# EAGLE library part ATTINY43 (library SparkFun-IC-Microcontroller)
ATtiny43 Pin 4 is COPI and Pin 5 is CIPO when the chip is in peripheral mode or is being programmed Pin 4 is CIPO and Pin 5 is COPI when the chip is operating in controller mode The #defines in the ATTinyCore assume controller mode
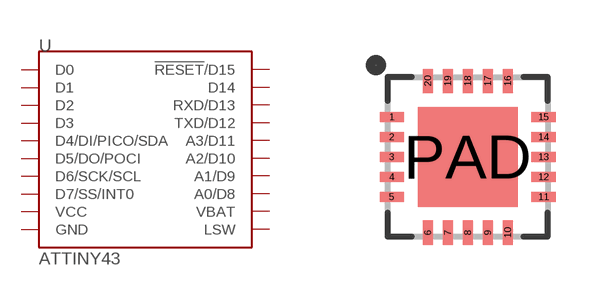
[diagram p41: symbol with the pads of QFN20_20M1; footprint QFN20_20M1]

Designator prefix -

## ATTINY43_QFN20 (DIGIKEY_PART: ATTINY43U-MU-ND; MANU_PART: ATtiny43U-MU; PROD_ID: IC-16068)  [QFN20_20M1]
1  D2
2  D3
3  D4/DI/PICO/SDA
4  D5/DO/POCI
5  D6/SCK/SCL
6  D7/SS/INT0
7  VCC  pwr
8  GND  pwr
9  LSW  pwr
10  VBAT  pwr
11  A0/D8
12  A1/D9
13  A2/D10
14  A3/D11
15  TXD/D12
16  RXD/D13
17  D14
18  !RESET!/D15
19  D0
20  D1
PAD  GND  pwr

## Footprint QFN20_20M1 (pad centres in mm)
smd 0.6 x 0.25: 1 -1.9,1; 2 -1.9,0.5; 3 -1.9,0; 4 -1.9,-0.5; 5 -1.9,-1; 11 1.9,-1; 12 1.9,-0.5; 13 1.9,0; 14 1.9,0.5; 15 1.9,1
smd 0.25 x 0.6: 6 -1,-1.9; 7 -0.5,-1.9; 8 0,-1.9; 9 0.5,-1.9; 10 1,-1.9; 16 1,1.9; 17 0.5,1.9; 18 0,1.9; 19 -0.5,1.9; 20 -1,1.9
smd 2.5 x 2.5: PAD 0,0